# Altium schematic symbol library Relay.SchLib: 8 symbols
Pins are listed as number, name and electrical type; pins without a type are passive.

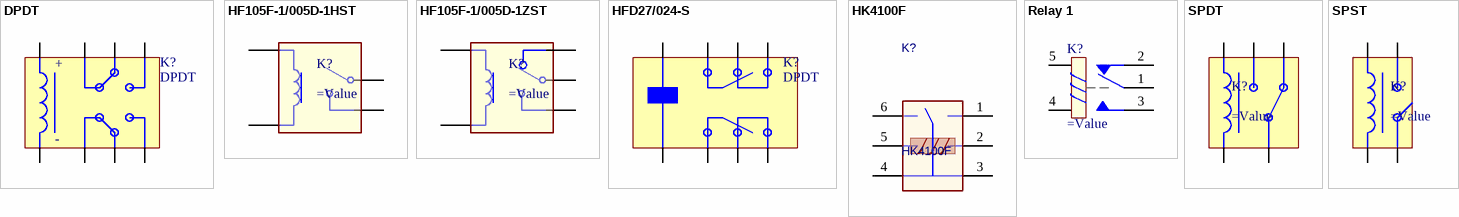
[diagram p0: symbols DPDT to SPST]

## DPDT
designator K?
=Description; Manufacturer Partnumber: G6S-2 DC5; Manufacturer: Omron Electronics Inc-EMC Div; Link sale: #https://www.digikey.com/product-detail/en/omron-electronics-inc-emc-div/G6S-2-DC5/Z2615-ND/333982#; Pricing (USD): 3.33; Expr1016: Relay; Detailed Value: DPDT-5V; Datasheet: #https://omronfs.omron.com/en_US/ecb/products/pdf/en-g6s.pdf#; Value: DPDT; Creator: Tunn; Mounting type: Through Hole; Supplier: Digikey; Category: Relay
footprint RL-OMRON-G6S
pins: 1, 3, 4, 5, 8, 9, 10, 12
text: +; -

## HF105F-1/005D-1HST
designator K?
=Description
pins: 2, 3, 4, 5

## HF105F-1/005D-1ZST
designator K?
=Description
pins: 1, 2, 3, 4, 5

## HFD27/024-S
designator K?, comment DPDT
=Description; Manufacturer Partnumber: G6S-2 DC5; Manufacturer: Omron Electronics Inc-EMC Div; Link sale: #https://www.digikey.com/product-detail/en/omron-electronics-inc-emc-div/G6S-2-DC5/Z2615-ND/333982#; Pricing (USD): 3.33; Expr1016: Relay; Detailed Value: DPDT-5V; Datasheet: #https://omronfs.omron.com/en_US/ecb/products/pdf/en-g6s.pdf#; Value: DPDT; Creator: Tunn; Mounting type: Through Hole; Supplier: Digikey; Category: Relay
footprint HFD27/024-S
pins: 1, 4, 6, 8, 9, 11, 13, 16

## HK4100F
designator K?
=Description; Partnumber: HK4100F-DC5V-SHG; Manufacture: Ningbo Keke New Era Appliance; Value: HK4100F; Category: Relay; Mounting type: Through Hole; Detailed Value: HK4100F
footprint RELAY-TH_HK4100F-DC5V-SHG
footprint RL-HK4100F-DC5V-SHG
pins: 1 NO, 2 COIL1, 3 COM, 4 COM, 5 COIL2, 6 NC

## Relay 1
designator K?
=Description
footprint RL_SPDT_10A (Relay SPDT, 5 pin, 10A,W 650mil, L 800mil, H 800mil)
footprint RL_T78
pins: 1, 2, 3, 4, 5

## SPDT
designator K?
=Description
pins: 1, 2, 3, 4, 5

## SPST
designator K?
=Description
footprint HF49FD
pins: 1, 2, 3, 5